# Altium schematic symbol library mySchlib.SchLib: 2 symbols
Pins are listed as number, name and electrical type; pins without a type are passive.

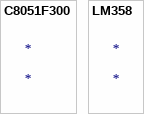
[diagram p0: symbols C8051F300 to LM358]

## C8051F300
designator *

## LM358
designator *